# Altium integrated library Resistor_470.IntLib: 1 symbol
Pins are listed as number, name and electrical type; pins without a type are passive.

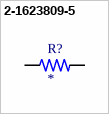
[diagram p0: symbol 2-1623809-5]

## 2-1623809-5
designator R?
MPR20 470R 5% 250PPM; MP: 2-1623809-5; Package: None; Price: None; Value: *; Availability: Unavailable
footprint TO508P1060X500X1900-2
pins: 1, 2